# Altium footprint library HC49_SMD.PcbLib: 1 footprints
Each footprint in its own frame and in the unit in brackets; x right, y up, seen from the top. Pads: shape width x height; smd on the part's side, far side on the other; paste and mask are expansions set on the pad; w line width, h text height; cw(c..) or ccw(c..) is an arc to the next point about the centre after c.
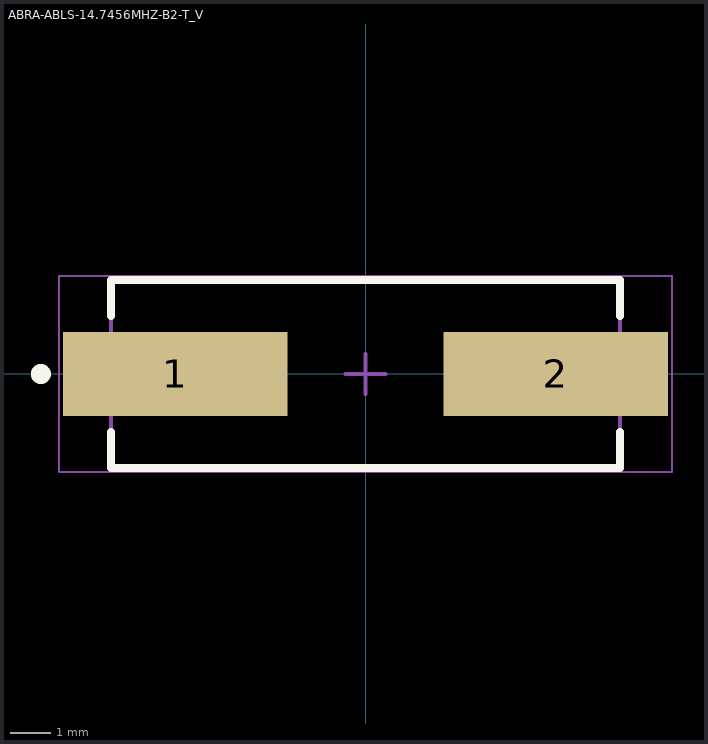
[diagram p0: the footprint, top view; thin cyan lines are the x and y axes]

## ABRA-ABLS-14.7456MHZ-B2-T_V [mm] "SMD, 2-Leads, Body 11.4x4.7mm"
height 4.2
pads (2):
  rect 5.6x2.1 smd: 1(-4.75,0) 2(4.75,0)
Top Overlay:
  circle w0.25: c-8.1,0 r0.125
  lines w0.2: -6.35,-1.45 -6.35,-2.35 6.35,-2.35 6.35,-1.45 ; -6.35,1.45 -6.35,2.35 6.35,2.35 6.35,1.45
Mechanical 13:
  lines w0.1: -6.35,-2.35 -6.35,2.35 6.35,2.35 6.35,-2.35 -6.35,-2.35
Mechanical 15:
  lines w0.05: -7.65,-2.45 7.65,-2.45 7.65,2.45 -7.65,2.45 -7.65,-2.45
  lines w0.1: -0.5,0 0.5,0 ; 0,-0.5 0,0.5
3D body "ABLS.STEP": height 4.16, standoff 0, extent -6.35,-2.349 6.35,2.35